# Altium footprint library APC.PcbLib: 68 footprints (part 2 of 5)
Each footprint in its own frame and in the unit in brackets; x right, y up, seen from the top. Pads: shape width x height; smd on the part's side, far side on the other; paste and mask are expansions set on the pad; w line width, h text height; cw(c..) or ccw(c..) is an arc to the next point about the centre after c.
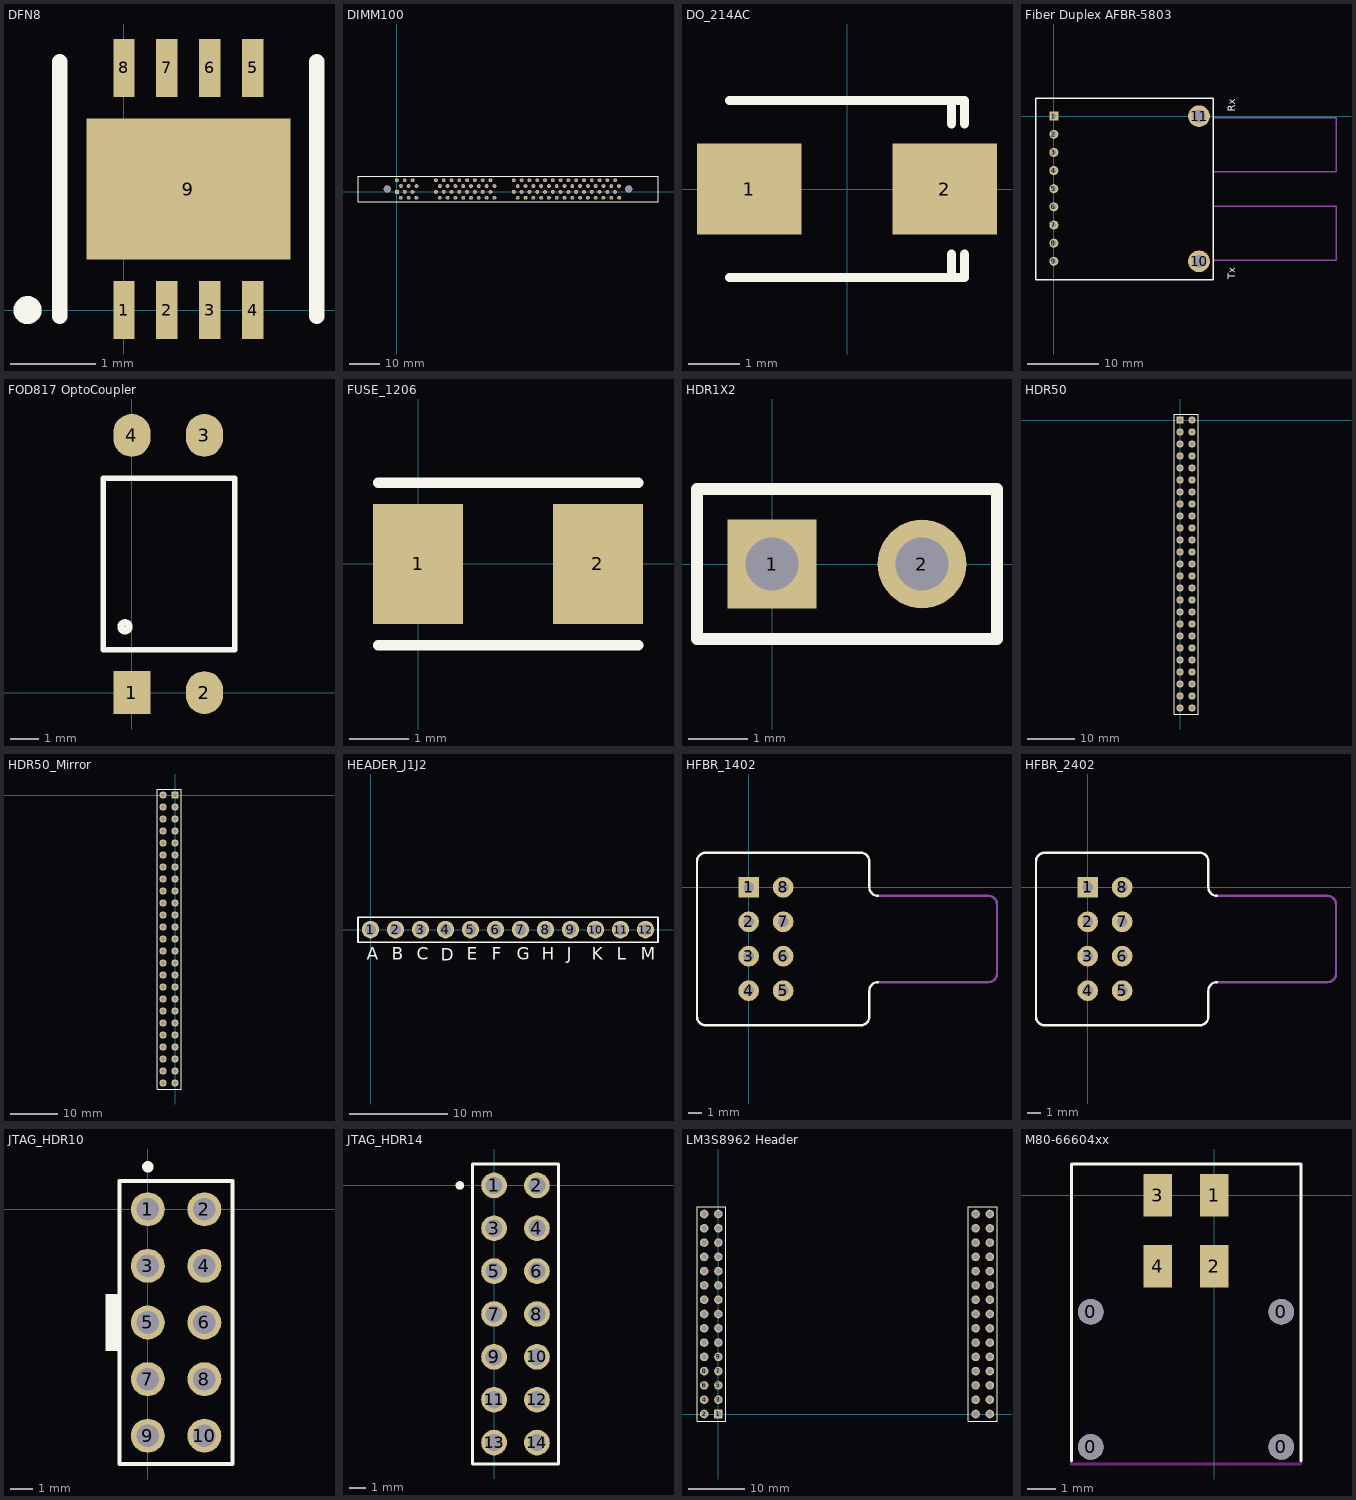
[diagram p1: the footprints below, top view; thin cyan lines are the x and y axes]

## DFN8 [mm] "DFN 8-pin package"
height 0.75
pads (9):
  rect 0.25x0.675 smd mask+0.15: 1(0,0) 2(0.5,0) 3(1,0) 4(1.5,0) 5(1.5,2.825) 6(1,2.825) 7(0.5,2.825) 8(0,2.825)
  rect 2.38x1.65 smd: 9(0.75,1.412)
Top Overlay:
  circle w0.178: c-1.125,0 r0.075
  lines w0.178: -0.75,2.9 -0.75,-0.075 ; 2.25,-0.075 2.25,2.9 ; -0.75,-0.075 -0.75,-0.075
3D body: height 0.75, standoff 0, extent -0.75,-0.075 2.25,2.9

## DIMM100 [mil] "DIMM 100-pin connector"
height 1000
pads (102):
  rect 50x50 hole 30: 1(0,0)
  round 50 hole 30: 2(50,-75) 3(100,0) 4(150,-75) 5(200,0) 6(250,-75) 7(500,0) 8(550,-75) 9(600,0) 10(650,-75) 11(700,0) 12(750,-75) 13(800,0) 14(850,-75) 15(900,0) 16(950,-75) 17(1000,0) 18(1050,-75) 19(1100,0) 20(1150,-75) 21(1200,0) 22(1250,-75) 23(1500,0) 24(1550,-75) 25(1600,0) 26(1650,-75) 27(1700,0) 28(1750,-75) 29(1800,0) 30(1850,-75) 31(1900,0) 32(1950,-75) 33(2000,0) 34(2050,-75) 35(2100,0) 36(2150,-75) 37(2200,0) 38(2250,-75) 39(2300,0) 40(2350,-75) 41(2400,0) 42(2450,-75) 43(2500,0) 44(2550,-75) 45(2600,0) 46(2650,-75) 47(2700,0) 48(2750,-75) 49(2800,0) 50(2850,-75) 51(0,150) 52(50,75) 53(100,150) 54(150,75) 55(200,150) 56(250,75) 57(500,150) 58(550,75) 59(600,150) 60(650,75) 61(700,150) 62(750,75) 63(800,150) 64(850,75) 65(900,150) 66(950,75) 67(1000,150) 68(1050,75) 69(1100,150) 70(1150,75) 71(1200,150) 72(1250,75) 73(1500,150) 74(1550,75) 75(1600,150) 76(1650,75) 77(1700,150) 78(1750,75) 79(1800,150) 80(1850,75) 81(1900,150) 82(1950,75) 83(2000,150) 84(2050,75) 85(2100,150) 86(2150,75) 87(2200,150) 88(2250,75) 89(2300,150) 90(2350,75) 91(2400,150) 92(2450,75) 93(2500,150) 94(2550,75) 95(2600,150) 96(2650,75) 97(2700,150) 98(2750,75) 99(2800,150) 100(2850,75)
  round 90 hole 93 unplated: 101(-125,38) 102(2975,38)
Top Overlay:
  lines w7: -500,-125 -500,200 3350,200 3350,-125 -500,-125
3D body: height 1125, standoff 0, extent -645,-125 3495,200

## DO_214AC [mil] "SMT Diode"
height 78.74
pads (2):
  rect 80x70 smd: 1(-75,0) 2(75,0)
Top Overlay:
  lines w7: -90,-67.87 90,-67.87 90,-50 ; -90,67.87 90,67.87 90,50 ; 80,-67.87 80,-50 ; 80,50 80,67.87
3D body: height 90, standoff 0, extent -90,-55 90,55

## Fiber Duplex AFBR-5803 [mil] "Fiber Transceiver AFBR-5803"
height 437
pads (11):
  rect 50x50 hole 28: 1(0,0)
  round 50 hole 28: 2(0,-100) 3(0,-200) 4(0,-300) 5(0,-400) 6(0,-500) 7(0,-600) 8(0,-700) 9(0,-800)
  round 120 hole 70: 10(800,-800) 11(800,0)
Top Overlay:
  lines w7: -98.43,-901.57 -98.43,98.43 877.95,98.43 877.95,-901.57 -98.43,-901.57
  text "Tx" at 1000,-898.62 h40
  text "Rx" at 1000,23.62 h40
Mechanical 13:
  lines w7: 877.95,-795.28 1555.12,-795.28 1555.12,-496.06 877.95,-496.06 ; 877.95,-307.09 1555.12,-307.09 1555.12,-7.87 877.95,-7.87
3D body: height 473, standoff 0, extent -98.43,-901.57 1555.12,98.43

## FOD817 OptoCoupler [mm] "SMT Opto-Coupler"
height 4
pads (4):
  rect 1.3x1.5 smd: 1(0,0)
  oval 1.3x1.5 smd: 2(2.54,0) 3(2.54,9) 4(0,9)
Top Overlay:
  circle w0.254: c-0.241,2.3 r0.141
  lines w0.178: -1,1.5 3.6,1.5 3.6,7.5 -1,7.5 -1,1.5
3D body: height 4, standoff 0, extent -1.2,1 3.8,8

## FUSE_1206 [mm] "SMD Fuse"
height 0.635
pads (2):
  rect 1.52x2.03 smd: 1(0,0) 2(3.04,0)
Top Overlay:
  lines w0.178: -0.675,-1.375 3.725,-1.375 ; -0.675,1.375 3.725,1.375
3D body: height 0.64, standoff 0, extent -0.127,-0.762 3.175,0.762

## HDR1X2 [mm] "Connector; Header; 2 Position"
height 8
pads (2):
  rect 1.5x1.5 hole 0.9: 1(0,0)
  round 1.5 hole 0.9: 2(2.54,0)
Top Overlay:
  lines w0.2: -1.27,-1.27 -1.27,1.27 3.81,1.27 3.81,-1.27 -1.27,-1.27

## HDR50 [mil]
height 236.22
pads (50):
  rect 60x60 hole 35: 1(0,0)
  round 60 hole 35: 2(0,-100) 3(0,-200) 4(0,-300) 5(0,-400) 6(0,-500) 7(0,-600) 8(0,-700) 9(0,-800) 10(0,-900) 11(0,-1000) 12(0,-1100) 13(0,-1200) 14(0,-1300) 15(0,-1400) 16(0,-1500) 17(0,-1600) 18(0,-1700) 19(0,-1800) 20(0,-1900) 21(0,-2000) 22(0,-2100) 23(0,-2200) 24(0,-2300) 25(0,-2400) 26(100,-2400) 27(100,-2300) 28(100,-2200) 29(100,-2100) 30(100,-2000) 31(100,-1900) 32(100,-1800) 33(100,-1700) 34(100,-1600) 35(100,-1500) 36(100,-1400) 37(100,-1300) 38(100,-1200) 39(100,-1100) 40(100,-1000) 41(100,-900) 42(100,-800) 43(100,-700) 44(100,-600) 45(100,-500) 46(100,-400) 47(100,-300) 48(100,-200) 49(100,-100) 50(100,0)
Top Overlay:
  lines w7: -50,-2450 150,-2450 150,50 -50,50 -50,-2450

## HDR50_Mirror [mil]
height 236.22
pads (50):
  rect 60x60 hole 35: 1(0,0)
  round 60 hole 35: 2(0,-100) 3(0,-200) 4(0,-300) 5(0,-400) 6(0,-500) 7(0,-600) 8(0,-700) 9(0,-800) 10(0,-900) 11(0,-1000) 12(0,-1100) 13(0,-1200) 14(0,-1300) 15(0,-1400) 16(0,-1500) 17(0,-1600) 18(0,-1700) 19(0,-1800) 20(0,-1900) 21(0,-2000) 22(0,-2100) 23(0,-2200) 24(0,-2300) 25(0,-2400) 26(-100,-2400) 27(-100,-2300) 28(-100,-2200) 29(-100,-2100) 30(-100,-2000) 31(-100,-1900) 32(-100,-1800) 33(-100,-1700) 34(-100,-1600) 35(-100,-1500) 36(-100,-1400) 37(-100,-1300) 38(-100,-1200) 39(-100,-1100) 40(-100,-1000) 41(-100,-900) 42(-100,-800) 43(-100,-700) 44(-100,-600) 45(-100,-500) 46(-100,-400) 47(-100,-300) 48(-100,-200) 49(-100,-100) 50(-100,0)
Top Overlay:
  lines w7: -150,-2450 50,-2450 50,50 -150,50 -150,-2450

## HEADER_J1J2 [mil] "Header Pads for connecting J1 & J2 to board"
pads (12):
  round 70 hole 45: 1(0,0) 2(100,0) 3(200,0) 4(300,0) 5(400,0) 6(500,0) 7(600,0) 8(700,0) 9(800,0) 10(900,0) 11(1000,0) 12(1100,0)
Top Overlay:
  lines w7: -50,-50 1150,-50 1150,50 -50,50 -50,-50
  text "A" at -15,-120 h50
  text "B" at 85,-120 h50
  text "C" at 185,-120 h50
  text "H" at 685,-120 h50
  text "J" at 785,-120 h50
  text "K" at 885,-120 h50
  text "D" at 280,-125 h50
  text "L" at 985,-120 h50
  text "E" at 385,-120 h50
  text "M" at 1080,-120 h50
  text "F" at 485,-120 h50
  text "G" at 585,-120 h50

## HFBR_1402 [mil] "IR transmitter, SMA"
height 400
pads (8):
  rect 60x60 hole 30: 1(0,0)
  round 60 hole 30: 2(0,-100) 3(0,-200) 4(0,-300) 5(100,-300) 6(100,-200) 7(100,-100) 8(100,0)
Top Overlay:
  lines w7: 375,-275 ccw(c375,-300) 350,-300 350,-375 cw(c325,-375) 325,-400 -125,-400 cw(c-125,-375) -150,-375 -150,75 cw(c-125,75) -125,100 325,100 cw(c325,75) 350,75 350,0 ccw(c375,0) 375,-25
Mechanical 13:
  lines w7: 375,-275 695,-275 ccw(c695,-250) 720,-250 720,-50 ccw(c695,-50) 695,-25 375,-25
3D body: height 400, standoff 0, extent -150,-400 725,100

## HFBR_2402 [mil] "IR receiver SMA"
height 400
pads (8):
  rect 60x60 hole 30: 1(0,0)
  round 60 hole 30: 2(0,-100) 3(0,-200) 4(0,-300) 5(100,-300) 6(100,-200) 7(100,-100) 8(100,0)
Top Overlay:
  lines w7: 375,-275 ccw(c375,-300) 350,-300 350,-375 cw(c325,-375) 325,-400 -125,-400 cw(c-125,-375) -150,-375 -150,75 cw(c-125,75) -125,100 325,100 cw(c325,75) 350,75 350,0 ccw(c375,0) 375,-25
Mechanical 13:
  lines w7: 375,-275 695,-275 ccw(c695,-250) 720,-250 720,-50 ccw(c695,-50) 695,-25 375,-25
3D body: height 400, standoff 0, extent -150,-400 725,100

## JTAG_HDR10 [mil] "10-pin JTAG header"
height 300
pads (10):
  round 60 hole 40: 1(0,0) 2(100,0) 3(0,-100) 4(100,-100) 5(0,-200) 6(100,-200) 7(0,-300) 8(100,-300) 9(0,-400) 10(100,-400)
Top Overlay:
  circle w10: c0,75 r5
  rectangle: -75,-250 -50,-150
  lines w7: -50,-450 -50,50 150,50 150,-450 -50,-450
3D body: height 300, standoff 0, extent -50,-450 150,50

## JTAG_HDR14 [mil] "14-pin JTAG header"
height 300
pads (14):
  round 60 hole 40: 1(0,0) 2(100,0) 3(0,-100) 4(100,-100) 5(0,-200) 6(100,-200) 7(0,-300) 8(100,-300) 9(0,-400) 10(100,-400) 11(0,-500) 12(100,-500) 13(0,-600) 14(100,-600)
Top Overlay:
  circle w10: c-80,0 r5
  lines w7: -50,-650 150,-650 150,50 -50,50 -50,-650
3D body: height 300, standoff 0, extent -50,-650 150,50

## LM3S8962 Header [mil] "LM3S8962 Evaluation Board Header"
height 334.65
pads (60):
  rect 60x60 hole 40: 1(0,0)
  round 60 hole 40: 2(-100,0) 3(0,100) 4(-100,100) 5(0,200) 6(-100,200) 7(0,300) 8(-100,300) 9(0,400) 10(-100,400) 11(0,500) 12(-100,500) 13(0,600) 14(-100,600) 15(0,700) 16(-100,700) 17(0,800) 18(-100,800) 19(0,900) 20(-100,900) 21(0,1000) 22(-100,1000) 23(0,1100) 24(-100,1100) 25(0,1200) 26(-100,1200) 27(0,1300) 28(-100,1300) 29(0,1400) 30(-100,1400) 31(1800,1400) 32(1900,1400) 33(1800,1300) 34(1900,1300) 35(1800,1200) 36(1900,1200) 37(1800,1100) 38(1900,1100) 39(1800,1000) 40(1900,1000) 41(1800,900) 42(1900,900) 43(1800,800) 44(1900,800) 45(1800,700) 46(1900,700) 47(1800,600) 48(1900,600) 49(1800,500) 50(1900,500) 51(1800,400) 52(1900,400) 53(1800,300) 54(1900,300) 55(1800,200) 56(1900,200) 57(1800,100) 58(1900,100) 59(1800,0) 60(1900,0)
Top Overlay:
  lines w7: -150,-50 -150,1450 50,1450 50,-50 -150,-50 ; 1750,-50 1950,-50 1950,1450 1750,1450 1750,-50
3D body: height 1052.22, standoff -118.78, extent -313,-840 2140,3750

## M80-66604xx [mm] "Harwin, Horizontal SMT Male, Locking Latch, 4 pin"
height 5.6
pads (8):
  round 0.9 hole 0.9 unplated: 0(-4.35,-8.85) 0(-4.35,-4.1) 0(2.35,-8.85) 0(2.35,-4.1)
  rect 1x1.5 smd: 1(0,0) 2(0,-2.5) 3(-2,0) 4(-2,-2.5)
Top Layer keep-out:
  lines w0.1: -5.05,-9.45 3.05,-9.45
Top Overlay:
  lines w0.1: -5.025,-9.35 -5.025,1.1 3.05,1.1 3.05,-9.35
3D body: height 5.82, standoff -0.03, extent -4.95,-12.6 2.95,0.35